# Altium schematic symbol library Symbol_library.SchLib: 11 symbols
Pins are listed as number, name and electrical type; pins without a type are passive.

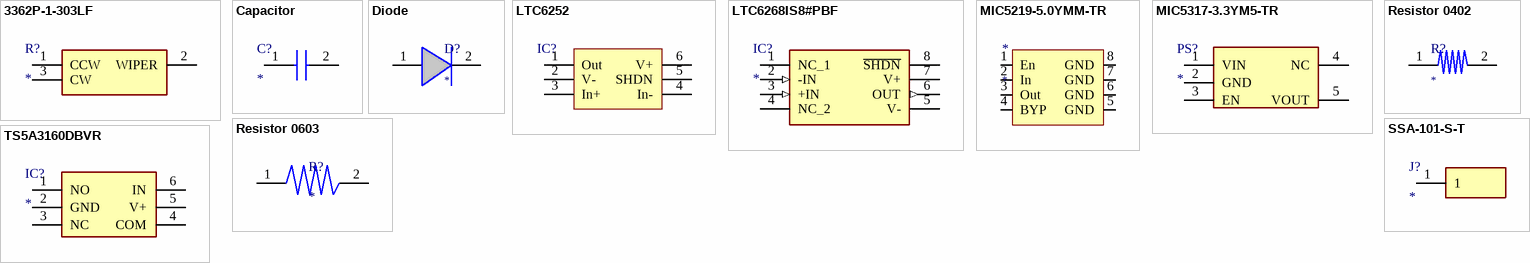
[diagram p0: symbols 3362P-1-303LF to TS5A3160DBVR]

## 3362P-1-303LF
designator R?
Resistor; Manufacturer_Name: Bourns; Manufacturer_Part_Number: 3362P-1-303LF
footprint 3362P_1
pins: 1 CCW, 2 WIPER, 3 CW

## Capacitor
designator C?
Capacitor
footprint 0603
pins: 1, 2

## Diode
designator D?
footprint 0603
pins: 1, 2

## LTC6252
designator IC?
Supplier 1: Mouser; Supplier Part Number 1: 584-LTC6252CS6TRMPBF
footprint SOT-23-6
pins: 1 Out, 2 V-, 3 In+, 4 In-, 5 SHDN, 6 V+

## LTC6268IS8#PBF
designator IC?
Integrated Circuit; Manufacturer_Name: Linear Technology; Manufacturer_Part_Number: LTC6268IS8#PBF; Datasheet Link: https://componentsearchengine.com//LTC6268IS8#PBF.pdf; Height: 1.752mm; Mouser2 Part Number: 584-LTC6268IS8#PBF; Mouser2 Price/Stock: https://www.mouser.com/Search/Refine.aspx?Keyword=584-LTC6268IS8%23PBF
footprint SOIC127P599X175-8N
pins: 1 NC_1, 2 -IN (in), 3 +IN (in), 4 NC_2, 5 V-, 6 OUT (out), 7 V+, 8 ~{SHDN}

## MIC5219-5.0YMM-TR
designator *
footprint MSOP-8_MS
pins: 1 En, 2 In, 3 Out, 4 BYP, 5 GND, 6 GND, 7 GND, 8 GND

## MIC5317-3.3YM5-TR
designator PS?
Power Supply; Manufacturer_Name: Microchip; Manufacturer_Part_Number: MIC5317-3.3YM5-TR; Datasheet Link: https://componentsearchengine.com//MIC5317-3.3YM5-TR.pdf; Height: 1mm; Mouser2 Part Number: 998-MIC5317-3.3YM5TR; Mouser2 Price/Stock: https://www.mouser.com/Search/Refine.aspx?Keyword=998-MIC5317-3.3YM5TR
footprint SOT-23-5
pins: 1 VIN, 2 GND, 3 EN, 4 NC, 5 VOUT

## Resistor 0402
designator R?
footprint 0402
pins: 1, 2

## Resistor 0603
designator R?
Resistor
footprint 0603
pins: 1, 2

## SSA-101-S-T
designator J?
Connector; Manufacturer_Name: SAMTEC; Manufacturer_Part_Number: SSA-101-S-T; Datasheet Link: http://suddendocs.samtec.com/prints/ssas-mkt.pdf
footprint SSA-101-S-X
pins: 1

## TS5A3160DBVR
designator IC?
Integrated Circuit; Manufacturer_Name: Texas Instruments; Manufacturer_Part_Number: TS5A3160DBVR; Datasheet Link: http://www.ti.com/lit/gpn/ts5a3160; Height: 1.45mm; Mouser2 Part Number: 595-TS5A3160DBVR; Mouser2 Price/Stock: https://www.mouser.com/Search/Refine.aspx?Keyword=595-TS5A3160DBVR
footprint SOT-23-6
pins: 1 NO, 2 GND, 3 NC, 4 COM, 5 V+, 6 IN